# Altium footprint library NRS8030.PcbLib: 1 footprints
Each footprint in its own frame and in the unit in brackets; x right, y up, seen from the top. Pads: shape width x height; smd on the part's side, far side on the other; paste and mask are expansions set on the pad; w line width, h text height; cw(c..) or ccw(c..) is an arc to the next point about the centre after c.
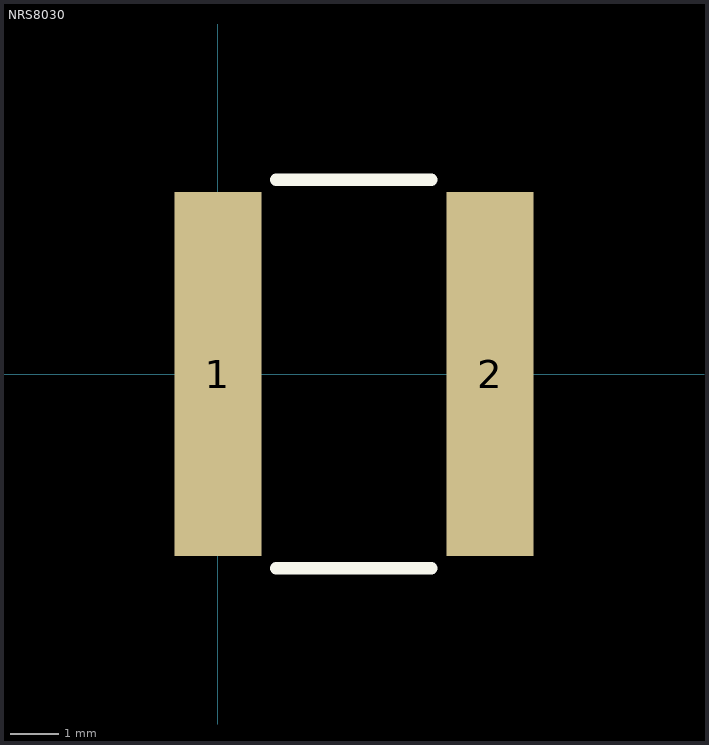
[diagram p0: the footprint, top view; thin cyan lines are the x and y axes]

## NRS8030 [mm] "Chip inductor 8x8x3mm"
height 3
pads (2):
  rect 1.8x7.5 smd: 1(0,0) 2(5.6,0)
Top Overlay:
  lines w0.254: 1.194,-4 4.394,-4 ; 1.194,4 4.394,4